# Altium footprint library 52272223.PcbLib: 1 footprints
Each footprint in its own frame and in the unit in brackets; x right, y up, seen from the top. Pads: shape width x height; smd on the part's side, far side on the other; paste and mask are expansions set on the pad; w line width, h text height; cw(c..) or ccw(c..) is an arc to the next point about the centre after c.
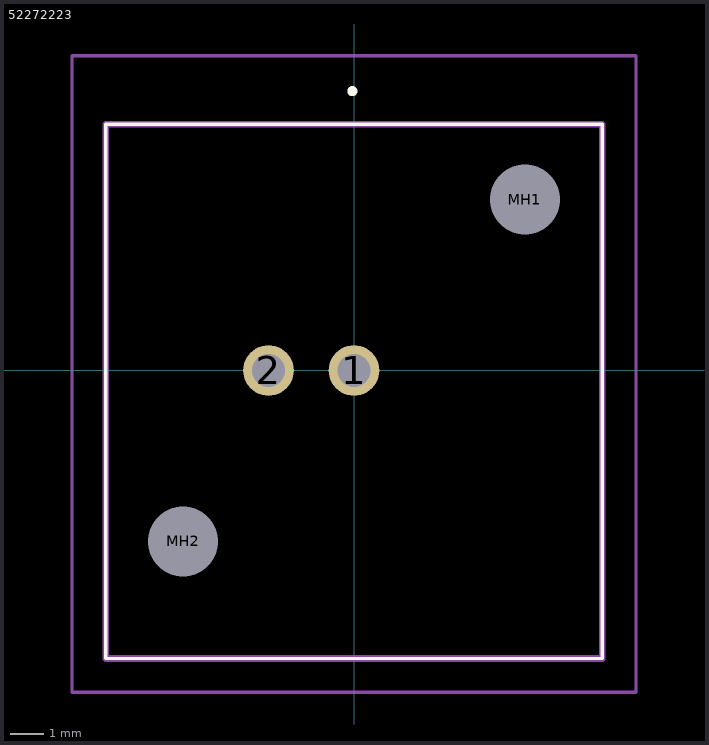
[diagram p0: the footprint, top view; thin cyan lines are the x and y axes]

## 52272223 [mm]
pads (4):
  round 1.509 hole 0.97: 1(0,0) 2(-2.54,0)
  round 1.045 hole 2.09 unplated: MH1(5.08,5.08) MH2(-5.08,-5.08)
Top Overlay:
  lines w0.1: -7.38,-8.56 7.38,-8.56 7.38,7.32 -7.38,7.32 -7.38,-8.56
  lines w0.2: -0.1,8.3 -0.1,8.3 ; -0.1,8.3 ccw(c-0.05,8.3) 0,8.3 ; -0.1,8.3 cw(c-0.05,8.3) 0,8.3 ; -0.1,8.3 -0.1,8.3 ; -0.1,8.3 ccw(c-0.05,8.3) 0,8.3 ; 0,8.3 0,8.3
Mechanical 15:
  lines w0.2: -7.38,-8.56 7.38,-8.56 7.38,7.32 -7.38,7.32 -7.38,-8.56
Mechanical 20:
  lines w0.1: -8.38,-9.56 8.38,-9.56 8.38,9.35 -8.38,9.35 -8.38,-9.56